# Altium footprint library 7-Seg.PcbLib: 5 footprints
Each footprint in its own frame and in the unit in brackets; x right, y up, seen from the top. Pads: shape width x height; smd on the part's side, far side on the other; paste and mask are expansions set on the pad; w line width, h text height; cw(c..) or ccw(c..) is an arc to the next point about the centre after c.
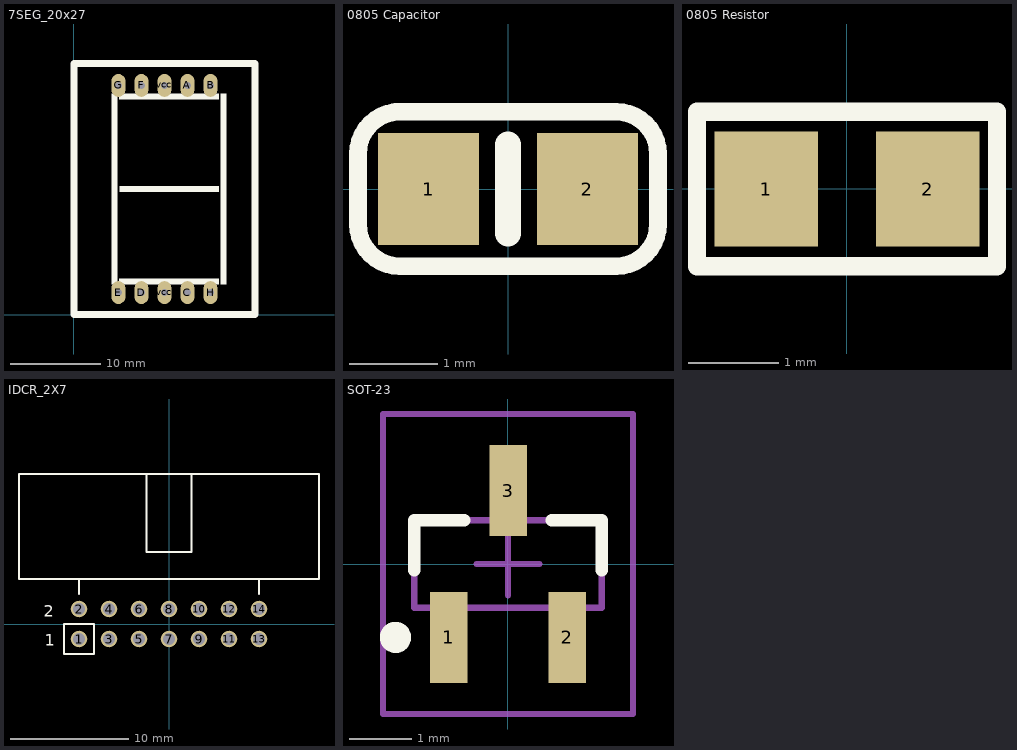
[diagram p0: the footprints below, top view; thin cyan lines are the x and y axes]

## 7SEG_20x27 [mil]
pads (10):
  oval 60x100 hole 30: A(493.7,995.28) B(593.7,995.28) C(493.7,95.28) D(293.7,95.28) E(193.7,95.28) F(293.7,995.28) G(193.7,995.28) H(593.7,95.28) vcc(393.7,95.28) vcc(393.7,995.28)
Top Overlay:
  rectangle: 197.76,532.78 630.83,557.78
  rectangle: 196.85,131.2 629.92,156.2
  region: 662.11,129.92 662.11,960.63 637.11,960.63 637.11,129.92
  region: 189.67,129.92 189.67,960.63 164.67,960.63 164.67,129.92
  rectangle: 196.85,934.35 629.92,959.35
  lines w30: 0,1086.61 3.94,1090.55 787.4,1090.55 787.4,0 0,0 0,1090.55

## 0805 Capacitor [mil]
height 300
pads (2):
  rect 45x50 smd: 1(-35.43,0) 2(35.43,0)
Top Overlay:
  lines w7.87: -50.2,34.45 48.23,34.45 cw(c48.23,15.75) 66.93,15.75 66.93,-15.75 cw(c48.23,-15.75) 48.23,-34.45 -48.23,-34.45 cw(c-48.23,-15.75) -66.93,-15.75 -66.93,15.75 cw(c-48.23,15.75) -48.23,34.45
  lines w11.81: 0,-19.68 0,19.68
3D body "SW3dPS-0805 SMD Capacitor.STEP": height 30.79, standoff 0, extent -39.37,-24.6 39.37,24.61

## 0805 Resistor [mil]
height 300
pads (2):
  rect 45x50 smd: 1(-35,0) 2(35,0)
Top Overlay:
  lines w7.87: -65,-33.46 65,-33.46 65,33.46 -65,33.46 -65,-33.46
3D body "User Library-RESC2012X05N.STEP": height 17.76, standoff 0, extent -39.37,-24.61 39.37,24.6

## IDCR_2X7 [mm]
pads (14):
  round 1.4 / inner round 1.4 / far side oval 1.4x2.2 hole 1 mask+0.1: 1(-7.62,-1.27) 2(-7.62,1.27) 3(-5.08,-1.27) 4(-5.08,1.27) 5(-2.54,-1.27) 6(-2.54,1.27) 7(0,-1.27) 8(0,1.27) 9(2.54,-1.27) 10(2.54,1.27) 11(5.08,-1.27) 12(5.08,1.27) 13(7.62,-1.27) 14(7.62,1.27)
Top Overlay:
  lines w0.2: -7.62,2.54 -7.62,3.81 ; -1.905,12.7 -1.905,6.096 1.905,6.096 1.905,12.7 ; 7.62,2.54 7.62,3.81 ; -12.7,3.81 12.7,3.81 12.7,12.7 -12.7,12.7 -12.7,3.81 ; -8.89,-2.54 -8.89,0 -6.35,0 -6.35,-2.54 -8.89,-2.54
  text "2" at -10.6,0.6 h1
  text "1" at -10.541,-1.854 h1
3D body "D2514-5002-AR (14P_RA).STEP": height 8.64, standoff -2.84, extent -12.548,-1.587 12.548,11.176

## SOT-23 [mm]
height 7.62
pads (3):
  rect 0.6x1.45 smd: 1(-0.95,-1.175) 2(0.95,-1.175) 3(0,1.175)
Top Overlay:
  circle w0.25: c-1.8,-1.175 r0.125
  lines w0.2: -1.5,-0.1 -1.5,0.7 -0.7,0.7 ; 0.7,0.7 1.5,0.7 1.5,-0.1
Mechanical 13:
  lines w0.1: -1.5,-0.7 -1.5,0.7 1.5,0.7 1.5,-0.7 -1.5,-0.7
Mechanical 15:
  lines w0.1: -0.5,0 0.5,0 ; 0,-0.5 0,0.5 ; -2,-2.4 -2,2.4 2,2.4 2,-2.4 -2,-2.4
3D body "User Library-N-MOS_BSS123_SOT23.STEP": height 1, standoff 0, extent -1.45,-1.225 1.45,1.075